# EAGLE library part XC9572XLTQ100 (library XC9572XLTQ100)
Check availability <https://pricing.snapeda.com/parts/XC9572XLTQ100/Xilinx/view-part?ref=eda>
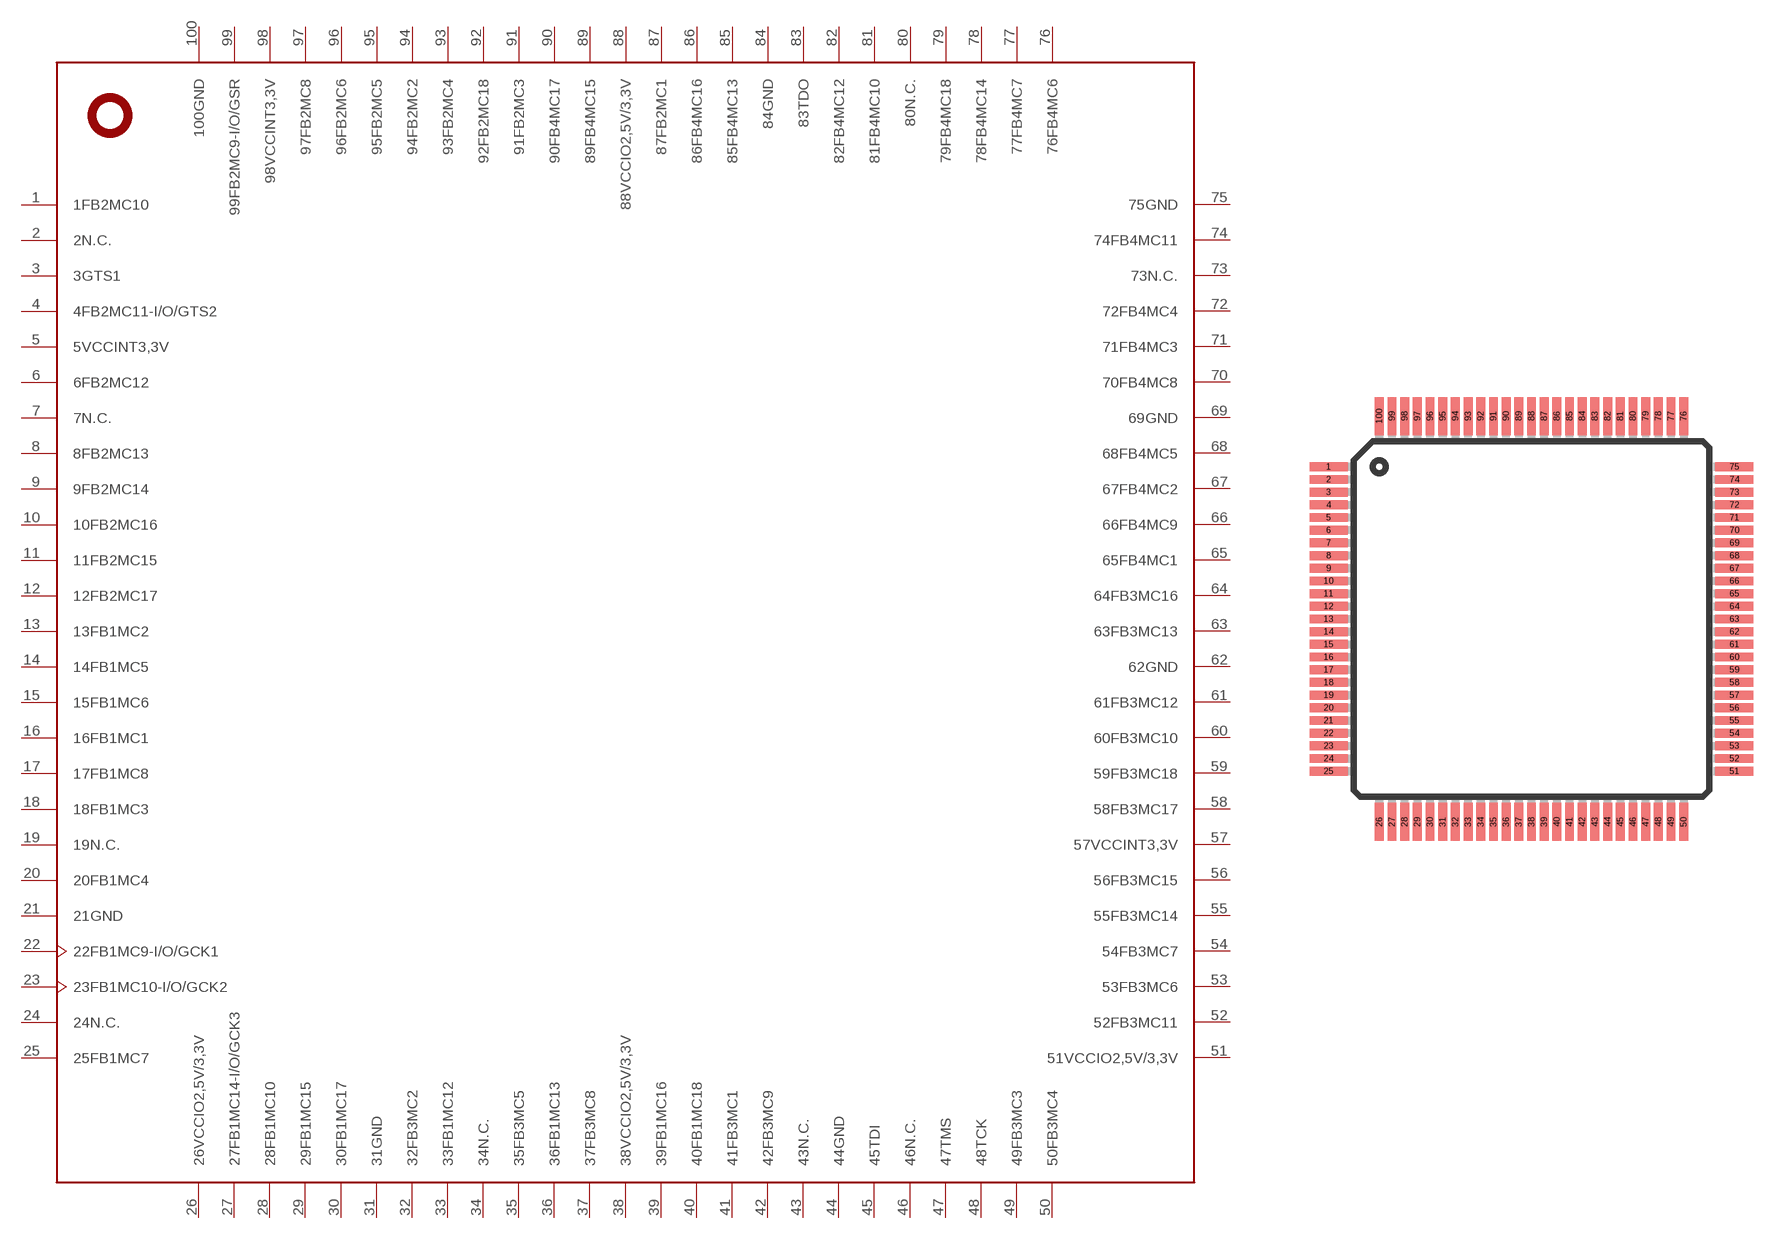
[diagram p0: symbol with the pads of TQ100; footprint TQ100]

Designator prefix -

## XC9572XLTQ100 (Availability: Not in stock; Check_prices: https://www.snapeda.com/parts/XC9572XLTQ100/Xilinx/view-part/?ref=eda; Description: AMD; MF: Xilinx; MP: XC9572XLTQ100; Package: None; Price: None; SnapEDA_Link: https://www.snapeda.com/parts/XC9572XLTQ100/Xilinx/view-part/?ref=snap)  [TQ100]
1  1FB2MC10
2  2N.C.
3  3GTS1
4  4FB2MC11-I/O/GTS2
5  5VCCINT3,3V
6  6FB2MC12
7  7N.C.
8  8FB2MC13
9  9FB2MC14
10  10FB2MC16
11  11FB2MC15
12  12FB2MC17
13  13FB1MC2
14  14FB1MC5
15  15FB1MC6
16  16FB1MC1
17  17FB1MC8
18  18FB1MC3
19  19N.C.
20  20FB1MC4
21  21GND
22  22FB1MC9-I/O/GCK1
23  23FB1MC10-I/O/GCK2
24  24N.C.
25  25FB1MC7
26  26VCCIO2,5V/3,3V
27  27FB1MC14-I/O/GCK3
28  28FB1MC10
29  29FB1MC15
30  30FB1MC17
31  31GND
32  32FB3MC2
33  33FB1MC12
34  34N.C.
35  35FB3MC5
36  36FB1MC13
37  37FB3MC8
38  38VCCIO2,5V/3,3V
39  39FB1MC16
40  40FB1MC18
41  41FB3MC1
42  42FB3MC9
43  43N.C.
44  44GND
45  45TDI
46  46N.C.
47  47TMS
48  48TCK
49  49FB3MC3
50  50FB3MC4
51  51VCCIO2,5V/3,3V
52  52FB3MC11
53  53FB3MC6
54  54FB3MC7
55  55FB3MC14
56  56FB3MC15
57  57VCCINT3,3V
58  58FB3MC17
59  59FB3MC18
60  60FB3MC10
61  61FB3MC12
62  62GND
63  63FB3MC13
64  64FB3MC16
65  65FB4MC1
66  66FB4MC9
67  67FB4MC2
68  68FB4MC5
69  69GND
70  70FB4MC8
71  71FB4MC3
72  72FB4MC4
73  73N.C.
74  74FB4MC11
75  75GND
76  76FB4MC6
77  77FB4MC7
78  78FB4MC14
79  79FB4MC18
80  80N.C.
81  81FB4MC10
82  82FB4MC12
83  83TDO
84  84GND
85  85FB4MC13
86  86FB4MC16
87  87FB2MC1
88  88VCCIO2,5V/3,3V
89  89FB4MC15
90  90FB4MC17
91  91FB2MC3
92  92FB2MC18
93  93FB2MC4
94  94FB2MC2
95  95FB2MC5
96  96FB2MC6
97  97FB2MC8
98  98VCCINT3,3V
99  99FB2MC9-I/O/GSR
100  100GND

## Footprint TQ100 (pad centres in mm)
smd 1.5 x 0.35: 1 -4.19,3.46; 2 -4.19,2.96; 3 -4.19,2.46; 4 -4.19,1.96; 5 -4.19,1.46; 6 -4.19,0.96; 7 -4.19,0.46; 8 -4.19,-0.04; 9 -4.19,-0.54; 10 -4.19,-1.04; 11 -4.19,-1.54; 12 -4.19,-2.04; 13 -4.19,-2.54; 14 -4.19,-3.04; 15 -4.19,-3.54; 16 -4.19,-4.04; 17 -4.19,-4.54; 18 -4.19,-5.04; 19 -4.19,-5.54; 20 -4.19,-6.04; 21 -4.19,-6.54; 22 -4.19,-7.04; 23 -4.19,-7.54; 24 -4.19,-8.04; 25 -4.19,-8.54; 51 11.81,-8.54; 52 11.81,-8.04; 53 11.81,-7.54; 54 11.81,-7.04; 55 11.81,-6.54; 56 11.81,-6.04; 57 11.81,-5.54; 58 11.81,-5.04; 59 11.81,-4.54; 60 11.81,-4.04; 61 11.81,-3.54; 62 11.81,-3.04; 63 11.81,-2.54; 64 11.81,-2.04; 65 11.81,-1.54; 66 11.81,-1.04; 67 11.81,-0.54; 68 11.81,-0.04; 69 11.81,0.46; 70 11.81,0.96; 71 11.81,1.46; 72 11.81,1.96; 73 11.81,2.46; 74 11.81,2.96; 75 11.81,3.46
smd 0.35 x 1.5: 26 -2.19,-10.54; 27 -1.69,-10.54; 28 -1.19,-10.54; 29 -0.69,-10.54; 30 -0.19,-10.54; 31 0.31,-10.54; 32 0.81,-10.54; 33 1.31,-10.54; 34 1.81,-10.54; 35 2.31,-10.54; 36 2.81,-10.54; 37 3.31,-10.54; 38 3.81,-10.54; 39 4.31,-10.54; 40 4.81,-10.54; 41 5.31,-10.54; 42 5.81,-10.54; 43 6.31,-10.54; 44 6.81,-10.54; 45 7.31,-10.54; 46 7.81,-10.54; 47 8.31,-10.54; 48 8.81,-10.54; 49 9.31,-10.54; 50 9.81,-10.54; 76 9.81,5.46; 77 9.31,5.46; 78 8.81,5.46; 79 8.31,5.46; 80 7.81,5.46; 81 7.31,5.46; 82 6.81,5.46; 83 6.31,5.46; 84 5.81,5.46; 85 5.31,5.46; 86 4.81,5.46; 87 4.31,5.46; 88 3.81,5.46; 89 3.31,5.46; 90 2.81,5.46; 91 2.31,5.46; 92 1.81,5.46; 93 1.31,5.46; 94 0.81,5.46; 95 0.31,5.46; 96 -0.19,5.46; 97 -0.69,5.46; 98 -1.19,5.46; 99 -1.69,5.46; 100 -2.19,5.46